# Altium integrated library TSW-106-07-F-S.IntLib: 1 symbol
Pins are listed as number, name and electrical type; pins without a type are passive.

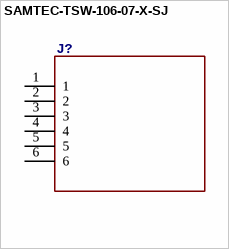
[diagram p0: symbol SAMTEC-TSW-106-07-X-SJ]

## SAMTEC-TSW-106-07-X-SJ
designator J?
footprint SAMTEC-TSW-106-07-X-S
pins: 1, 2, 3, 4, 5, 6